# EAGLE library part NCP59301DS50R4G (library PacMan)
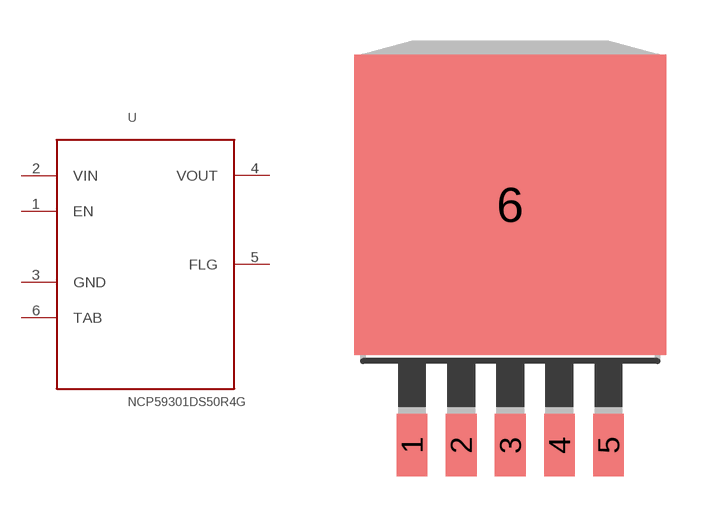
[diagram p2: symbol with the pads of TO263-5; footprint TO263-5]

Designator prefix -

## NCP59301DS50R4G  [TO263-5]
1  EN  in
2  VIN  in
3  GND  out
4  VOUT  out
5  FLG  out
6  TAB  out

## Footprint TO263-5 (pad centres in mm)
TO-263
smd 1.067 x 2.159: 1 -3.404,-5.791; 2 -1.702,-5.791; 3 0,-5.791; 4 1.702,-5.791; 5 3.404,-5.791
smd 10.8 x 10.41: 6 0,2.54